# EAGLE library part SIM39EA (library SIMCOM)
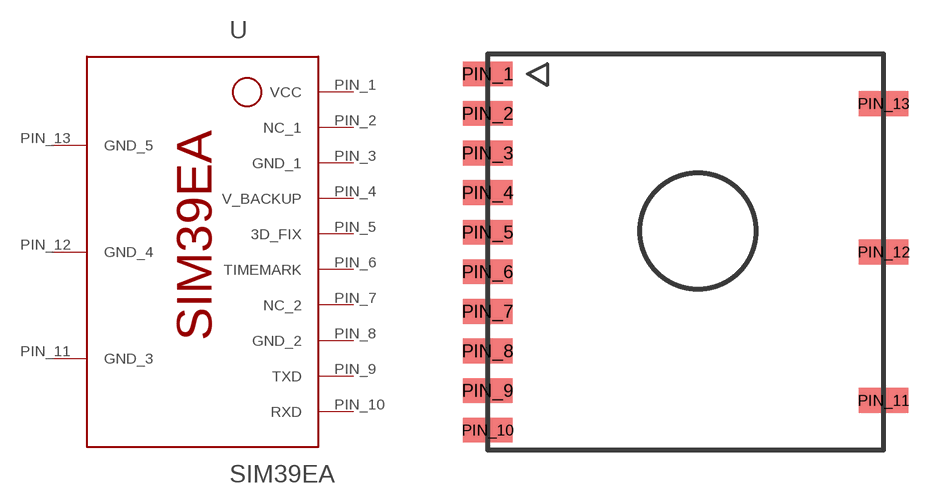
[diagram p5: symbol with the pads of SIM39EA; footprint SIM39EA]

Designator prefix -

## SIM39EA (MF: SIMCOM; MPN: SIM39EA)  [SIM39EA]
PIN_1  VCC
PIN_2  NC_1
PIN_3  GND_1
PIN_4  V_BACKUP
PIN_5  3D_FIX
PIN_6  TIMEMARK
PIN_7  NC_2
PIN_8  GND_2
PIN_9  TXD
PIN_10  RXD
PIN_11  GND_3
PIN_12  GND_4
PIN_13  GND_5

## Footprint SIM39EA (pad centres in mm)
smd 2 x 1: PIN_1 -8,7.2; PIN_2 -8,5.6; PIN_3 -8,4; PIN_4 -8,2.4; PIN_5 -8,0.8; PIN_6 -8,-0.8; PIN_7 -8,-2.4; PIN_8 -8,-4; PIN_9 -8,-5.6; PIN_10 -8,-7.2; PIN_11 8,-6; PIN_12 8,0; PIN_13 8,6